# Altium integrated library Sensor.IntLib: 13 symbols
Pins are listed as number, name and electrical type; pins without a type are passive.

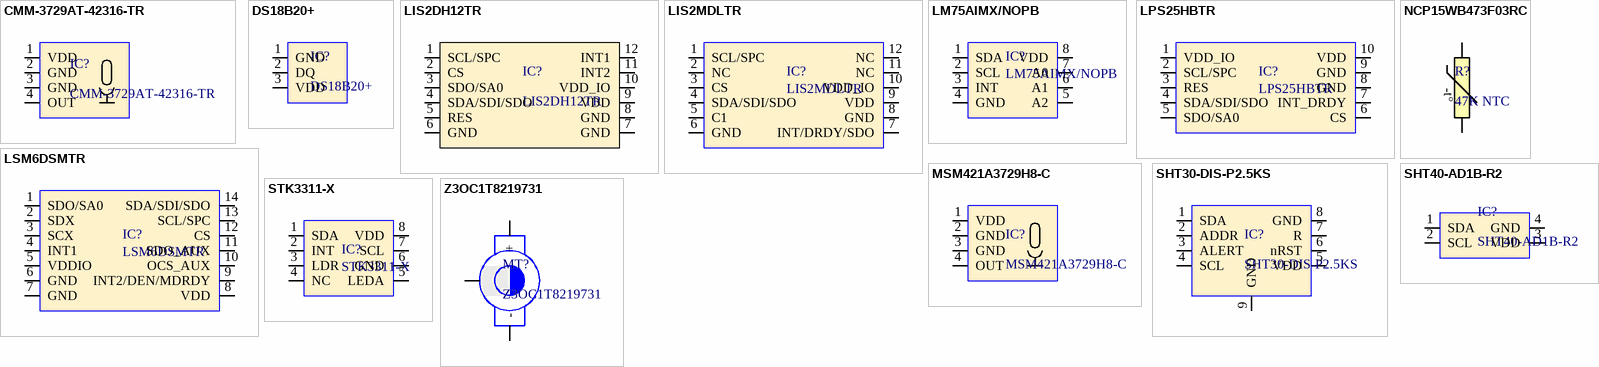
[diagram p0: symbols CMM-3729AT-42316-TR to Z3OC1T8219731]

## CMM-3729AT-42316-TR
designator IC?
3.76 x 2.24 mm, Analog, Top Port, Surface Mount, 2.0 Vdc, -42 ±3 dB, MEMS Microphone; Manufacturer: CUI Devices; Purpose Of Usage: BASIC; Manufacturer Part Number: CMM-3729AT-42316-TR; RoHS: Yes; Category: SENSOR; Case/Package: ??; Local Supplier: FUTURE; Max Operating Temperature: 85°C; Min Operating Temperature: -40°C; Mount: SMD; Price 10K: 0.54; Stock ID: ??; Sub-Category: MICROPHONE; Supplier 1: Digi-Key; Supplier Part Number 1: 102-5078-1-ND
footprint MSM421A3729H8-C
pins: 1 VDD, 2 GND, 3 GND, 4 OUT

## DS18B20+
designator IC?
MAXIM INTEGRATED PRODUCTS         DS18B20+.             12bit,  0.5C 1 Wire Digital Thermometer with Programmable Resolution in TO-92-3 Package; Purpose Of Usage: BASIC; Supplier 1: Digi-Key; Manufacturer: Maxim; Manufacturer Part Number: DS18B20+; RoHS: Yes; Mount: THT; Case/Package: TO-92-3; Min Operating Temperature: -55°C; Max Operating Temperature: 125°C; Category: SENSOR; Supplier Part Number 1: DS18B20+-ND; Stock ID: ??; Sub-Category: TEMPERATURE
footprint TO-92
footprint TO-92 - horizantal
pins: 1 GND, 2 DQ, 3 VDD

## LIS2DH12TR
designator IC?
Accelerometer X  Y  Z Axis ±2g  4g  8g  16g 0.5Hz~672Hz 12-LGA (2x2); Manufacturer: STMicroelectronics; Purpose Of Usage: BASIC; Supplier 1: Digi-Key; Manufacturer Part Number: LIS2DH12TR; RoHS: Yes; Category: SENSOR; Case/Package: LGA; Min Operating Temperature: -40°C; Max Operating Temperature: 85°C; Supplier Part Number 1: 497-14851-2-ND; Mount: SMD; Stock ID: ??; Sub-Category: ACCELOROMETER/GYRCOSP; Local Supplier: FUTURE; Price 10K: 0.54
footprint LGA12
pins: 1 SCL/SPC, 2 CS, 3 SDO/SA0, 4 SDA/SDI/SDO, 5 RES, 6 GND, 7 GND, 8 GND, 9 VDD, 10 VDD_IO, 11 INT2, 12 INT1

## LIS2MDLTR
designator IC?
ULTRA-COMPACT HIGH-PERFORMANCE E; Manufacturer: STMicroelectronics; Purpose Of Usage: BASIC; Supplier 1: Digi-Key; Manufacturer Part Number: LIS2MDLTR; RoHS: No; Supplier Part Number 1: 497-17588-6-ND; Category: SENSOR; Mount: SMD; Stock ID: ??; Sub-Category: COMPASS; Local Supplier: FUTURE; Price 10K: 1.75
footprint LGA12
pins: 1 SCL/SPC, 2 NC, 3 CS, 4 SDA/SDI/SDO, 5 C1, 6 GND, 7 INT/DRDY/SDO, 8 GND, 9 VDD, 10 VDD_IO, 11 NC, 12 NC

## LM75AIMX/NOPB
designator IC?
SENSOR DIGITAL -55C-125C 8SOIC; Manufacturer: TI National Semiconductor; Purpose Of Usage: BASIC; Supplier 1: Digi-Key; Manufacturer Part Number: LM75AIMX/NOPB; RoHS: Yes; Mount: SMD; Case/Package: SOIC; Min Operating Temperature: -55°C; Max Operating Temperature: 125°C; Supplier Part Number 1: LM75AIMX/NOPBCT-ND; Category: SENSOR; Stock ID: ??; Sub-Category: TEMPERATURE
footprint SO08
pins: 1 SDA, 2 SCL, 3 INT, 4 GND, 5 A2, 6 A1, 7 A0, 8 VDD

## LPS25HBTR
designator IC?
IC MEMS PRESSURE SENSOR 10HCLGA; Manufacturer: STMicroelectronics; Purpose Of Usage: BASIC; Supplier 1: Digi-Key; Manufacturer Part Number: LPS25HBTR; RoHS: Yes; Mount: SMD; Min Operating Temperature: -30°C; Max Operating Temperature: 105°C; Category: SENSOR; Supplier Part Number 1: 497-15070-1-ND; Stock ID: ??; Sub-Category: PRESSURE
footprint HLGA10_2P5X2P5
pins: 1 VDD_IO, 2 SCL/SPC, 3 RES, 4 SDA/SDI/SDO, 5 SDO/SA0, 6 CS, 7 INT_DRDY, 8 GND, 9 GND, 10 VDD

## LSM6DSMTR
designator IC?
IMU ACCEL/GYRO I2C/SPI 14LGA; Manufacturer: STMicroelectronics; Purpose Of Usage: BASIC; Category: SENSOR; Supplier 1: Digi-Key; Manufacturer Part Number: LSM6DSMTR; RoHS: No; Case/Package: LGA; Supplier Part Number 1: 497-16696-6-ND; Mount: SMD; Stock ID: ??; Sub-Category: ACCELOROMETER/GYRCOSP
footprint PQFN50P300X250X86-14N
pins: 1 SDO/SA0, 2 SDX, 3 SCX, 4 INT1, 5 VDDIO, 6 GND, 7 GND, 8 VDD, 9 INT2/DEN/MDRDY, 10 OCS_AUX, 11 SDO_AUX, 12 CS, 13 SCL/SPC, 14 SDA/SDI/SDO

## MSM421A3729H8-C
designator IC?
Microphone; Manufacturer: MEMSensing Microsystems; Manufacturer Part Number: MSM42A3729H8‐C; Purpose Of Usage: BASIC; Case/Package: ??; Category: SENSOR; Mount: SMD; RoHS: Yes; Stock ID: ??; Sub-Category: MICROPHONE; Supplier 1: ??; Supplier Part Number 1: ??
footprint MSM421A3729H8-C
pins: 1 VDD, 2 GND, 3 GND, 4 OUT

## NCP15WB473F03RC
designator R?, comment 47K NTC
0402 47KΩ ±1% B=4050K(25/50°C) 0.14mA; Manufacturer: MURATA; Manufacturer Part Number: NCP15WB473F03RC; Purpose Of Usage: BASIC; Supplier 1: Digi-Key; RoHS: Yes; Category: SENSOR; Case/Package: 0402; Min Operating Temperature: -40°C; Max Operating Temperature: 125°C; Supplier Part Number 1: 490-4802-2-ND; Mount: SMD; Stock ID: ??; Sub-Category: THERMISTORS
footprint R0402 (Chip Resistor, 2-Leads, Body 1.00x0.50mm, IPC Medium Density)
pins: 1, 2
text: -t°

## SHT30-DIS-P2.5KS
designator IC?
SENSOR HUMID/TEMP 5V I2C 3% SMD; Manufacturer: Sensirion; Purpose Of Usage: BASIC; Supplier 1: Digi-Key; Manufacturer Part Number: SHT30-DIS-P2.5KS; RoHS: No; Mount: SMD; Case/Package: DFN; Min Operating Temperature: -40°C; Max Operating Temperature: 125°C; Supplier Part Number 1: 1649-1082-1-ND; Category: SENSOR; Stock ID: ??; Sub-Category: TEMPERATURE  /HUMIDITY
footprint DFN
pins: 1 SDA (power), 2 ADDR, 3 ALERT, 4 SCL, 5 VDD, 6 nRST, 7 R, 8 GND (power), 9 GND (power)

## SHT40-AD1B-R2
designator IC?
Humidity/Temperature Sensor Digital Serial (I2C) 4-Pin DFN EP T/R; Manufacturer: Sensirion; Purpose Of Usage: BASIC; Supplier 1: Digi-Key; Manufacturer Part Number: SHT40-AD1B-R2; RoHS: Yes; Supplier Part Number 1: 1649-SHT40-AD1B-R2CT-ND; Category: SENSOR; Max Operating Temperature: 125°C; Min Operating Temperature: -40°C; Mount: SMD; Stock ID: ??; Sub-Category: TEMPERATURE  /HUMIDITY; Local Supplier: EMPA; Price 10K: 1.1
footprint SHT4X
pins: 1 SDA (power), 2 SCL, 3 VDD, 4 GND (power)

## STK3311-X
designator IC?
Ambient Light Sensor and Proximity Sensor with / Built-in IR LED; Manufacturer: Sensortek; Purpose Of Usage: BASIC; Supplier 1: Sensortek; Manufacturer Part Number: STK3311-X; RoHS: Yes; Mount: SMD; Min Operating Temperature: -40°C; Max Operating Temperature: 85°C; Category: SENSOR; Supplier Part Number 1: STK3311-X; Stock ID: ??; Sub-Category: ALS/PROXIMITY; Local Supplier: DIRECT; Price 10K: 0.3
footprint STK3311-X
pins: 1 SDA, 2 INT, 3 LDR, 4 NC, 5 LEDA, 6 GND, 7 SCL, 8 VDD

## Z3OC1T8219731
designator MT?
Vibration Erm Motor 12K Rpm 0.84; Manufacturer: KOTL; Purpose Of Usage: BASIC; Supplier 1: LCSC; Manufacturer Part Number: Z3OC1T8219731; RoHS: No; Category: SENSOR; Supplier Part Number 1: C2894731; Case/Package: ??; Max Operating Temperature: 70°C; Min Operating Temperature: -20°C; Mount: SMD; Stock ID: ??; Sub-Category: VIBRATION MOTOR; Local Supplier: DIRECT; Price 10K: 0.45
footprint Z3OC1T8219731
pins: 1 +, 2 -, 3 G